# Altium schematic symbol library GateDrivers.SchLib: 7 symbols
Pins are listed as number, name and electrical type; pins without a type are passive.

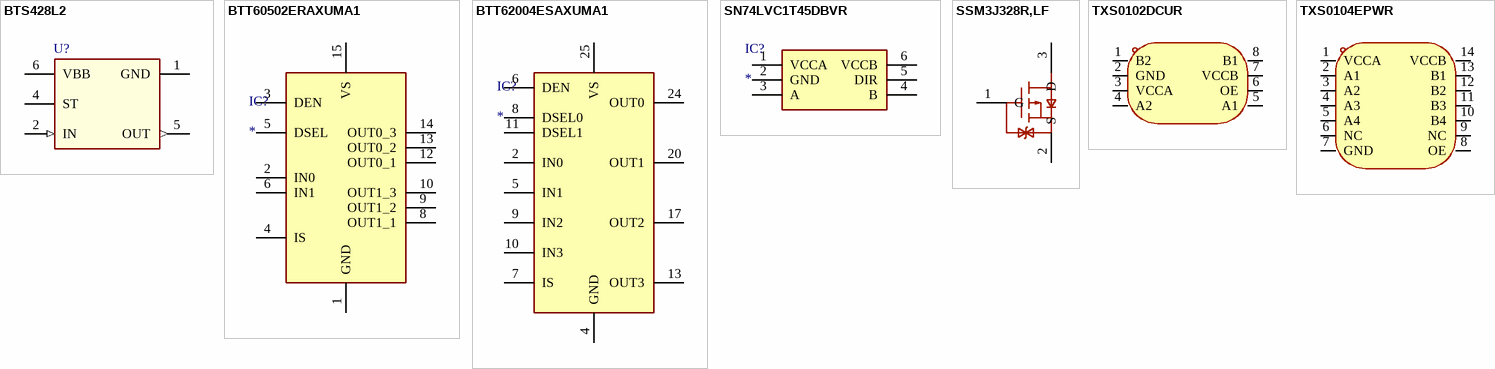
[diagram p0: symbols BTS428L2 to TXS0104EPWR]

## BTS428L2
designator U?  (value not drawn)
Smart High-Side Power Switch, One Channel, 60mOhm, Status Feedback; Manufacturer: Infineon Technologies; ManufacturerPartNumber: BTS428L2; PackageReference: PG-TO252-5-11
footprint TO114P998X235-6_5N-V (TO,1.14mm pitch;5 pin,9.98mm L X 6.12mm W X 2.35mm H body)
pins: 1 GND (power) "Logic Ground", 2 IN (in) "Input", 4 ST (oc) "Diagnostic Feedback", 5 OUT (out) "Output", 6 VBB (power) "Positive Power Supply Voltage"

## BTT60502ERAXUMA1
designator IC?
Integrated Circuit; Manufacturer_Name: Infineon; Manufacturer_Part_Number: BTT60502ERAXUMA1; Datasheet Link: https://www.infineon.com/dgdl/Infineon-BTT6050-2ERA-DS-v01_00-EN.pdf?fileId=5546d46269e1c019016a21d599df0d6a; Height: 1.15mm; Mouser Part Number: 726-BTT60502ERAXUMA1; Mouser Price/Stock: https://www.mouser.co.uk/ProductDetail/Infineon-Technologies/BTT60502ERAXUMA1?qs=mAH9sUMRCtsi1%2FDCmYjCiw%3D%3D; Arrow Part Number: BTT60502ERAXUMA1; Arrow Price/Stock: https://www.arrow.com/en/products/btt60502eraxuma1/infineon-technologies-ag?region=nac
footprint PG-TDSO-14
pins: 1 GND, 2 IN0, 3 DEN, 4 IS, 5 DSEL, 6 IN1, 8 OUT1_1, 9 OUT1_2, 10 OUT1_3, 12 OUT0_1, 13 OUT0_2, 14 OUT0_3, 15 VS

## BTT62004ESAXUMA1
designator IC?
Integrated Circuit; Manufacturer_Name: Infineon; Manufacturer_Part_Number: BTT62004ESAXUMA1; Datasheet Link: https://componentsearchengine.com/Datasheets/2/BTT62004ESAXUMA1.pdf; Height: 1.15mm; Mouser Part Number: 726-BTT62004ESAXUMA1; Mouser Price/Stock: https://www.mouser.co.uk/ProductDetail/Infineon-Technologies/BTT62004ESAXUMA1?qs=unwgFEO1A6tpV1sLwJtTRA%3D%3D; Arrow Part Number: BTT62004ESAXUMA1; Arrow Price/Stock: https://www.arrow.com/en/products/btt62004esaxuma1/infineon-technologies-ag
footprint PG-TSDSO-24
pins: 2 IN0, 4 GND, 5 IN1, 6 DEN, 7 IS, 8 DSEL0, 9 IN2, 10 IN3, 11 DSEL1, 13 OUT3, 17 OUT2, 20 OUT1, 24 OUT0, 25 VS

## SN74LVC1T45DBVR
designator IC?
Integrated Circuit; Manufacturer_Name: Texas Instruments; Manufacturer_Part_Number: SN74LVC1T45DBVR; Datasheet Link: https://componentsearchengine.com/Datasheets/2/SN74LVC1T45DBVR.pdf; Height: 1.45mm; Mouser Part Number: 595-SN74LVC1T45DBVR; Mouser Price/Stock: https://www.mouser.co.uk/ProductDetail/Texas-Instruments/SN74LVC1T45DBVR?qs=pajgIaoyDUhg6sKXdsM%2Fvg%3D%3D; Arrow Part Number: SN74LVC1T45DBVR; Arrow Price/Stock: https://www.arrow.com/en/products/sn74lvc1t45dbvr/texas-instruments?region=nac
footprint SOT95P280X145-6N (Footprint not found)
pins: 1 VCCA, 2 GND, 3 A, 4 B, 5 DIR, 6 VCCB

## SSM3J328R,LF
designator Q??  (value not drawn)
C396016; Manufacturer: TOSHIBA(东芝); Symbol: SSM3J328R,LF(A; Add into BOM: yes; Type: P沟道; Drain Source Voltage (Vdss): 20V; Continuous Drain Current (Id): 6A; Power Dissipation (Pd): 1W; Drain Source On Resistance (RDS(on)@Vgs,Id): 29.8mΩ@4.5V,3A; Gate Threshold Voltage (Vgs(th)@Id): 1V@1mA; Total Gate Charge (Qg@Vgs): 12.8nC@4.5V; Input Capacitance (Ciss@Vds): 840pF@10V; Device: SSM3J328R,LF; LCSC Part Name: P沟道 耐压:20V 电流:6A; Supplier Part: C396016; Manufacturer Part: SSM3J328R,LF; Supplier Footprint: SOT-23F; JLCPCB Part Class: Extended Part; Datasheet: https://atta.szlcsc.com/upload/public/pdf/source/20190613/C396016_077C527EFA8D0F2DB467606F7AD1BB74.pdf; Supplier: LCSC; Convert to PCB: yes
footprint SOT-23-3_L2.9-W1.6-P1.90-LS2.8-BR
pins: 1 G, 2 S, 3 D

## TXS0102DCUR
designator U??  (value not drawn)
电平转换芯片 C53434; Manufacturer: TI(德州仪器); Add into BOM: yes; Channel Type: 双向; Number of Circuits: 1; Channels per Circuit: 2; Supply Voltage (VCCA): 1.65V~3.6V; Supply Voltage (VCCB): 2.3V~5.5V; Output Type: 开路漏极；推挽式; Data Rate: 24Mbps; Name: TXS0102DCUR; Symbol: TXS0102DCUR; Device: TXS0102DCUR; LCSC Part Name: 24Mbps 2位双向电平转换器; Supplier Part: C53434; Manufacturer Part: TXS0102DCUR; Supplier Footprint: VSSOP-8; JLCPCB Part Class: Extended Part; Datasheet: https://www.ti.com/cn/lit/gpn/txs0102; Supplier: LCSC; Convert to PCB: yes; Input Signal: -; Output Signal: -; Operating Temperature: -40℃~+85℃; Features: 自动方向检测
footprint VSON8_L2.0-W2.3-P0.50-LS3.1-BL
3D model US-8_L2.0-W2.3-H0.9-LS3.1-P0.50
pins: 1 B2, 2 GND, 3 VCCA, 4 A2, 5 A1, 6 OE, 7 VCCB, 8 B1

## TXS0104EPWR
designator U??  (value not drawn)
C44955 电平转换芯片; Manufacturer: TI(德州仪器); Add into BOM: yes; Channel Type: 双向; Data Rate: 24Mbps; Supply Voltage (VCCA): 1.65V~3.6V; Supply Voltage (VCCB): 2.3V~5.5V; Number of Circuits: 1; Channels per Circuit: 4; Output Type: 推挽式；开路漏极; Name: TXS0104EPWR; Symbol: TXS0104EPWR; Device: TXS0104EPWR; LCSC Part Name: TXS0104EPWR; Supplier Part: C44955; Manufacturer Part: TXS0104EPWR; Supplier Footprint: TSSOP-14; JLCPCB Part Class: Extended Part; Datasheet: https://www.ti.com/cn/lit/gpn/txs0104e; Supplier: LCSC; Convert to PCB: yes; Operating Temperature: -40℃~+85℃; Features: 自动方向检测
footprint TSSOP-14_L5.0-W4.4-P0.65-LS6.4-BL
3D model TSSOP-14_L5.0-W4.4-H1.0-LS6.4-P0.65
pins: 1 VCCA, 2 A1, 3 A2, 4 A3, 5 A4, 6 NC, 7 GND, 8 OE, 9 NC, 10 B4, 11 B3, 12 B2, 13 B1, 14 VCCB